# Altium schematic symbol library Crystals.SCHLIB: 3 symbols
Pins are listed as number, name and electrical type; pins without a type are passive.

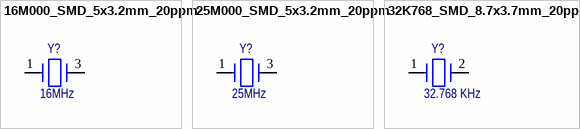
[diagram p0: symbols 16M000_SMD_5x3.2mm_20ppm to 32K768_SMD_8.7x3.7mm_20ppm]

## 16M000_SMD_5x3.2mm_20ppm
designator Y?, comment value 16MHz  (hidden comment: ABM3B-16.000MHZ-B2-T)
Crystal; 16.000MHZ; SMD; 5x3.2mm; 18pF; 20ppm; Manufacturer: Abracon LLC; ComponentLink4Description: Supplier Info; ComponentLink4URL: https://www.digikey.de/products/en?keywords=535-9122-6-ND; ComponentLink5Description: DataSheet; ComponentLink5URL: https://abracon.com/Resonators/abm3b.pdf; Manufacturer Part Number: ABM3B-16.000MHZ-B2-T; Supplier 1: Digi-Key; Supplier Part Number 1: 535-9122-1-ND
footprint XTAL(Q)5x3.2
pins: 1, 3

## 25M000_SMD_5x3.2mm_20ppm
designator Y?, comment value 25MHz  (hidden comment: ABM3B-25.000MHZ-B2-T)
Crystal; 25.000MHZ; SMD; 5x3.2mm; 18pF; 20ppm; Manufacturer: Abracon LLC; ComponentLink4Description: Supplier Info; ComponentLink4URL: https://www.digikey.com/en/products/detail/abracon-llc/ABM3B-25-000MHZ-B2-T/675323?s=N4IgTCBcDaIKwGY4FoCcBGMAOZA2ZAcgCIgC6AvkA; ComponentLink5Description: Datasheet; ComponentLink5URL: https://abracon.com/Resonators/abm3b.pdf; Manufacturer Part Number: ABM3B-25.000MHZ-B2-T; Supplier 1: Digi-Key; Supplier Part Number 1: 535-9128-1-ND
footprint XTAL(Q)5x3.2
pins: 1, 3

## 32K768_SMD_8.7x3.7mm_20ppm
designator Y?, comment value 32.768 KHz  (hidden comment: PH32768X)
Crystal; 32.768kHz; SMD; 8.7x3.7mm; 12.5pF; 20ppm; Manufacturer: EUROQUARTZ; ComponentLink4Description: Supplier Info; ComponentLink4URL: https://uk.farnell.com/euroquartz/ph32768x/crystal-3x8mm-plt-32-768khz-12/dp/1641088?ost=1641088; ComponentLink5Description: DataSheet; ComponentLink5URL: http://www.farnell.com/datasheets/1322436.pdf; Manufacturer Part Number: PH32768X; Supplier 1: Farnell; Supplier Part Number 1: 1641088
footprint FC
pins: 1, 2